# EAGLE library part MOLEX_47300_KOMBI (library sata)
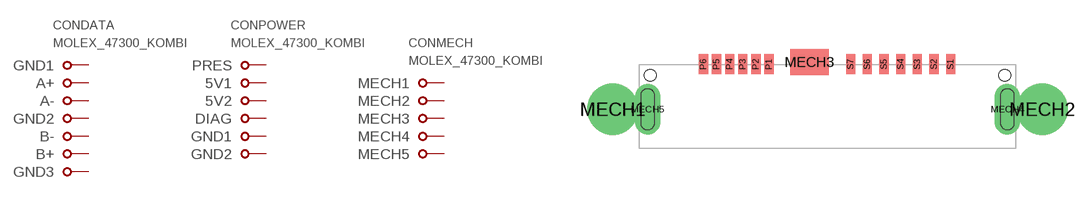
[diagram p3: symbol with the pads of MOLEX_47300-100X/101X/102X/103X; footprint MOLEX_47300-100X/101X/102X/103X]

Designator prefix CON; gates DATA=SATA_DATA POWER=SATA_POWER_6 MECH=SATA_MECH_5

## MOLEX_47300_KOMBI  [MOLEX_47300-100X/101X/102X/103X]
MECH1  MECH:MECH1
MECH2  MECH:MECH2
MECH3  MECH:MECH3
MECH4  MECH:MECH4
MECH5  MECH:MECH5
P1  POWER:PRES
P2  POWER:5V1
P3  POWER:5V2
P4  POWER:DIAG
P5  POWER:GND1
P6  POWER:GND2
S1  DATA:GND1
S2  DATA:A+
S3  DATA:A-
S4  DATA:GND2
S5  DATA:B-
S6  DATA:B+
S7  DATA:GND3

## Footprint MOLEX_47300-100X/101X/102X/103X (pad centres in mm)
drill 2.3 pad 3.9: MECH1 -16.35,3; MECH2 16.35,3
smd 2.93 x 2: MECH3 -1.38,6.6
drill 1 pad 1.93 long: MECH4 13.7,3; MECH5 -13.7,3
smd 0.7 x 1.5: P1 -4.45,6.45; P2 -5.45,6.45; P3 -6.45,6.45; P4 -7.45,6.45; P5 -8.45,6.45; P6 -9.45,6.45; S1 9.38,6.45; S2 8.11,6.45; S3 6.84,6.45; S4 5.57,6.45; S5 4.3,6.45; S6 3.03,6.45; S7 1.76,6.45
hole 0.9 at -13.5,5.6
hole 0.9 at 13.5,5.6